# Altium schematic symbol library IC Analog.SchLib: 1 symbol
Pins are listed as number, name and electrical type; pins without a type are passive.

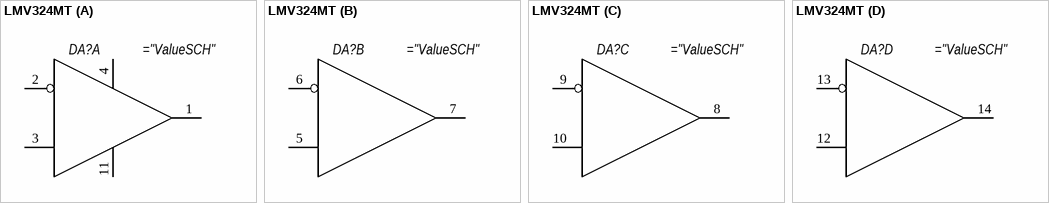
[diagram p0: symbol LMV324MT]

## LMV324MT
designator DA?
part A pins: 1, 2 -, 3 +, 4, 11
part B pins: 5 +, 6 -, 7
part C pins: 8, 9 -, 10 +
part D pins: 12 +, 13 -, 14